# EAGLE library part STAMP-S3M-PIN (library StampS3)
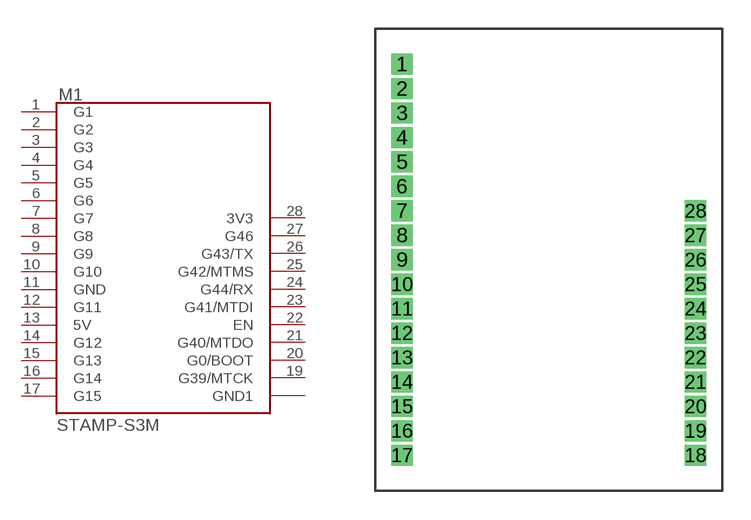
[diagram p1: symbol with the pads of STAMPS3_PIN_FTP; footprint STAMPS3_PIN_FTP]

Designator prefix -

## STAMP-S3M-PIN  [STAMPS3_PIN_FTP]
1  G1
2  G2
3  G3
4  G4
5  G5
6  G6
7  G7
8  G8
9  G9
10  G10
11  GND  pwr
12  G11
13  5V  pwr
14  G12
15  G13
16  G14
17  G15
18  GND1  pwr
19  G39/MTCK
20  G0/BOOT
21  G40/MTDO
22  EN  in
23  G41/MTDI
24  G44/RX  in
25  G42/MTMS
26  G43/TX  out
27  G46
28  3V3  pwr

## Footprint STAMPS3_PIN_FTP (pad centres in mm)
drill 0.6 square: 1 -3.81,7.62; 2 -3.81,6.35; 3 -3.81,5.08; 4 -3.81,3.81; 5 -3.81,2.54; 6 -3.81,1.27; 7 -3.81,0; 8 -3.81,-1.27; 9 -3.81,-2.54; 10 -3.81,-3.81; 11 -3.81,-5.08; 12 -3.81,-6.35; 13 -3.81,-7.62; 14 -3.81,-8.89; 15 -3.81,-10.16; 16 -3.81,-11.43; 17 -3.81,-12.7; 18 11.43,-12.7; 19 11.43,-11.43; 20 11.43,-10.16; 21 11.43,-8.89; 22 11.43,-7.62; 23 11.43,-6.35; 24 11.43,-5.08; 25 11.43,-3.81; 26 11.43,-2.54; 27 11.43,-1.27; 28 11.43,0